# Altium footprint library 4691.PcbLib: 1 footprints
Each footprint in its own frame and in the unit in brackets; x right, y up, seen from the top. Pads: shape width x height; smd on the part's side, far side on the other; paste and mask are expansions set on the pad; w line width, h text height; cw(c..) or ccw(c..) is an arc to the next point about the centre after c.
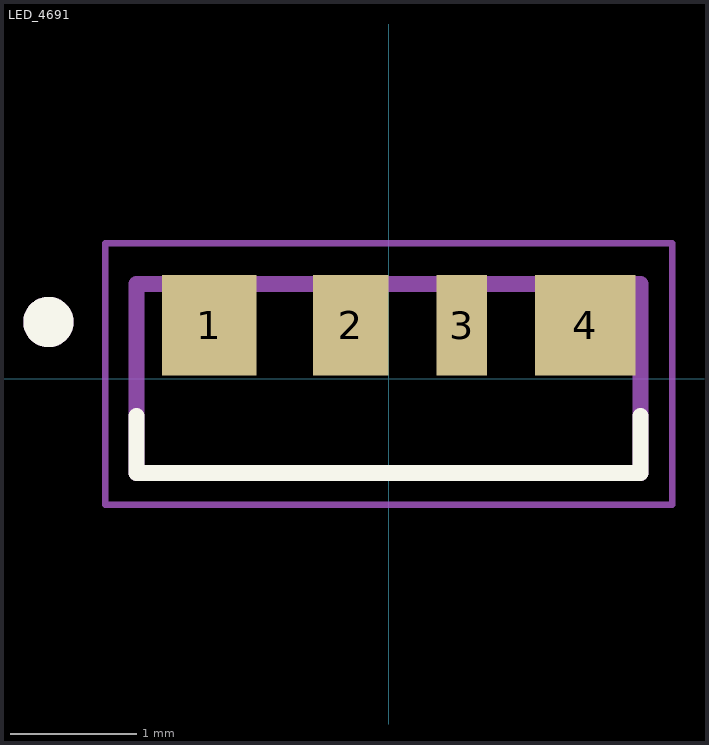
[diagram p0: the footprint, top view; thin cyan lines are the x and y axes]

## LED_4691 [mm]
pads (4):
  rect 0.75x0.8 smd: 1(-1.425,0.425)
  rect 0.6x0.8 smd: 2(-0.3,0.425)
  rect 0.4x0.8 smd: 3(0.58,0.425)
  rect 0.8x0.8 smd: 4(1.56,0.425)
Top Overlay:
  circle w0.2: c-2.7,0.45 r0.1
  lines w0.127: -2,-0.295 -2,-0.75 2,-0.75 2,-0.295
Mechanical 13:
  circle w0.2: c-2.7,0.45 r0.1
  lines w0.127: -2,-0.75 -2,0.75 2,0.75 2,-0.75 -2,-0.75
Mechanical 15:
  lines w0.05: -2.25,-1 -2.25,1.075 2.25,1.075 2.25,-1 -2.25,-1
3D body "step_temp.STEP": height 2.05, standoff 0, extent -2,-0.75 2,0.75